# Altium schematic symbol library 自己做的.SchLib: 8 symbols
Pins are listed as number, name and electrical type; pins without a type are passive.

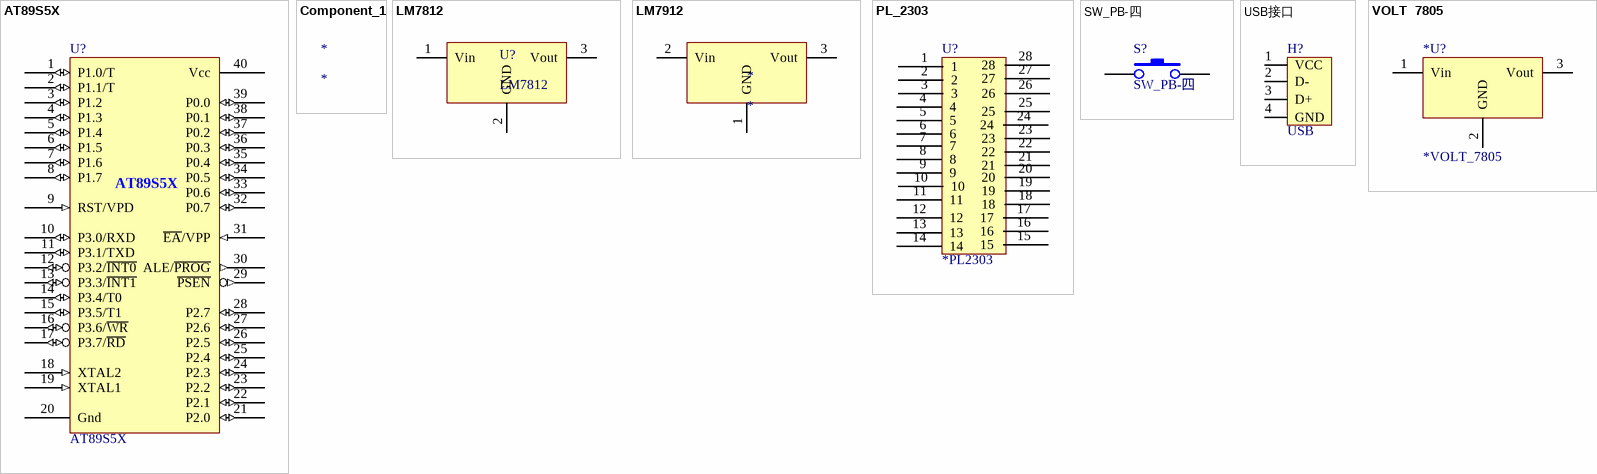
[diagram p0: symbols AT89S5X to VOLT  7805]

## AT89S5X
designator U?
footprint DIP40
pins: 1 P1.0/T (io), 2 P1.1/T (io), 3 P1.2 (io), 4 P1.3 (io), 5 P1.4 (io), 6 P1.5 (io), 7 P1.6 (io), 8 P1.7 (io), 9 RST/VPD (in), 10 P3.0/RXD (io), 11 P3.1/TXD (io), 12 P3.2/~{INT0} (io), 13 P3.3/~{INT1} (io), 14 P3.4/T0 (io), 15 P3.5/T1 (io), 16 P3.6/~{WR} (io), 17 P3.7/~{RD} (io), 18 XTAL2 (in), 19 XTAL1 (in), 20 Gnd (power), 21 P2.0 (io), 22 P2.1 (io), 23 P2.2 (io), 24 P2.3 (io), 25 P2.4 (io), 26 P2.5 (io), 27 P2.6 (io), 28 P2.7 (io), 29 ~{PSEN} (out), 30 ALE/~{PROG} (out), 31 ~{EA}/VPP (in), 32 P0.7 (io), 33 P0.6 (io), 34 P0.5 (io), 35 P0.4 (io), 36 P0.3 (io), 37 P0.2 (io), 38 P0.1 (io), 39 P0.0 (io), 40 Vcc (power)

## Component_1
designator *

## LM7812
designator U?
footprint VR5
pins: 1 Vin, 2 GND, 3 Vout

## LM7912
designator *
footprint VR5
pins: 1 GND, 2 Vin, 3 Vout

## PL_2303
designator U?, comment *PL2303
footprint PL_2303
pins: 1, 2, 3, 4, 5, 6, 7, 8, 9, 10, 11, 12, 13, 14, 15, 16, 17, 18, 19, 20, 21, 22, 23, 24, 25, 26, 27, 28

## SW_PB-四
designator S?
footprint B键
pins: 1, 2

## USB接口
designator H?, comment USB
footprint USB接口 (usb接口)
pins: 1 VCC, 2 D-, 3 D+, 4 GND

## VOLT  7805
designator *U?, comment *VOLT_7805
footprint VOLT_7805
pins: 1 Vin, 2 GND, 3 Vout